# EAGLE library part EXBE (library Panasonic-EXB-ERJ)
Chip Resistor Networks
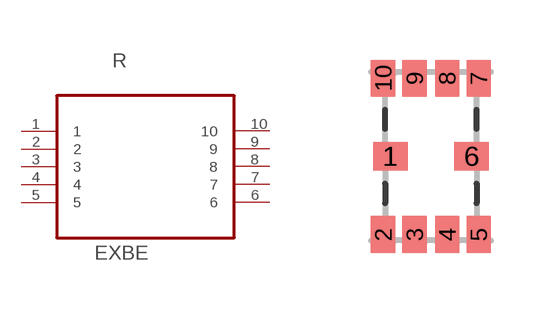
[diagram p8: symbol with the pads of RESCAV_EXBE-10N; footprint RESCAV_EXBE-10N]

Designator prefix R

## EXBE10C103J (MPN: EXBE10C103J; OC_FARNELL: 2283543; OC_NEWARK: 53W5036; PACKAGE: 1608; POWERRATING: 0.063 W/element; SUPPLIER: PANASONIC; TOLERANCE: ±5 %; VALUE: 10K), EXBE10C472J (MPN: EXBE10C472J; OC_FARNELL: 2283544; OC_NEWARK: 53W5037; PACKAGE: 1608; POWERRATING: 0.063 W/element; SUPPLIER: PANASONIC; TOLERANCE: ±5 %; VALUE: 4.7K)  [RESCAV_EXBE-10N]
1  1  pas
2  2  pas
3  3  pas
4  4  pas
5  5  pas
6  6  pas
7  7  pas
8  8  pas
9  9  pas
10  10  pas

## Footprint RESCAV_EXBE-10N (pad centres in mm)
smd 0.864 x 0.711: 1 -1.016,0; 6 1.016,0
smd 0.61 x 0.914: 2 -1.194,-1.956; 3 -0.406,-1.956; 4 0.406,-1.956; 5 1.194,-1.956; 7 1.194,1.956; 8 0.406,1.956; 9 -0.406,1.956; 10 -1.194,1.956